# Altium schematic symbol library lora.SchLib: 5 symbols
Pins are listed as number, name and electrical type; pins without a type are passive.

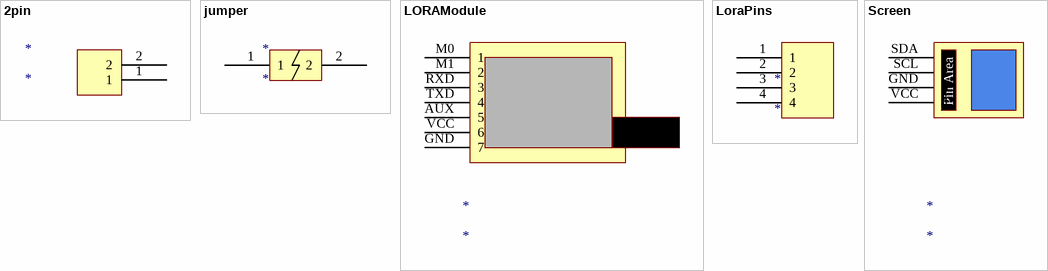
[diagram p0: symbols 2pin to Screen]

## 2pin
designator *
footprint 2PIN
pins: 1, 2

## jumper
designator *
footprint jumper
pins: 1, 2

## LORAModule
designator *
footprint LORAmodule
pins: AUX 5, GND 7, M0 1, M1 2, RXD 3, TXD 4, VCC 6

## LoraPins
designator *
footprint 4pin
pins: 1, 2, 3, 4

## Screen
designator *
footprint Screen
pins: GND 3, SCL 2, SDA 1, VCC 4
text: Pin Area